# Altium footprint library QFN-124.PcbLib: 1 footprints
Each footprint in its own frame and in the unit in brackets; x right, y up, seen from the top. Pads: shape width x height; smd on the part's side, far side on the other; paste and mask are expansions set on the pad; w line width, h text height; cw(c..) or ccw(c..) is an arc to the next point about the centre after c.
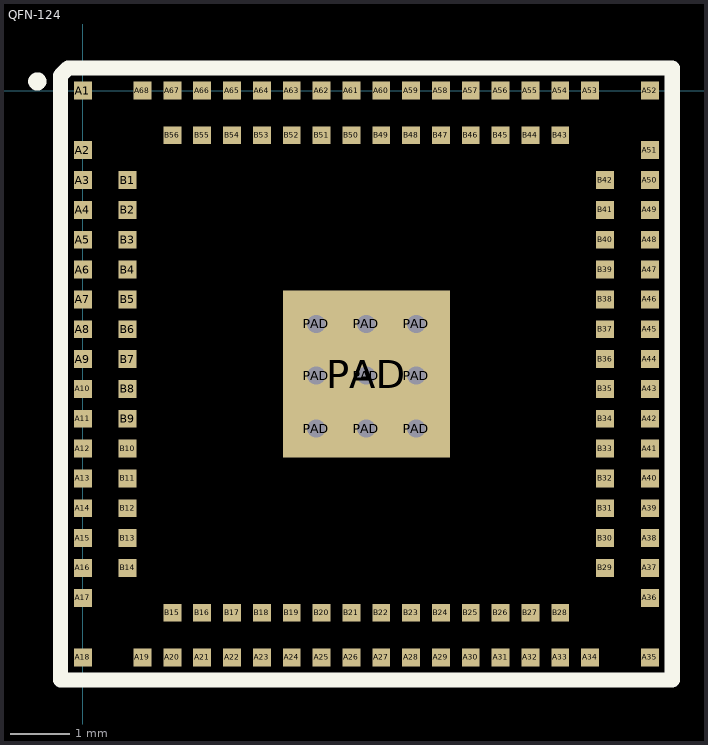
[diagram p0: the footprint, top view; thin cyan lines are the x and y axes]

## QFN-124 [mm]
pads (134):
  rect 0.3x0.3 smd: A1(0,0) A2(0,-1) A3(0,-1.5) A4(0,-2) A5(0,-2.5) A6(0,-3) A7(0,-3.5) A8(0,-4) A9(0,-4.5) A10(0,-5) A11(0,-5.5) A12(0,-6) A13(0,-6.5) A14(0,-7) A15(0,-7.5) A16(0,-8) A17(0,-8.5) A18(0,-9.5) A19(1,-9.5) A20(1.5,-9.5) A21(2,-9.5) A22(2.5,-9.5) A23(3,-9.5) A24(3.5,-9.5) A25(4,-9.5) A26(4.5,-9.5) A27(5,-9.5) A28(5.5,-9.5) A29(6,-9.5) A30(6.5,-9.5) A31(7,-9.5) A32(7.5,-9.5) A33(8,-9.5) A34(8.5,-9.5) A35(9.5,-9.5) A36(9.5,-8.5) A37(9.5,-8) A38(9.5,-7.5) A39(9.5,-7) A40(9.5,-6.5) A41(9.5,-6) A42(9.5,-5.5) A43(9.5,-5) A44(9.5,-4.5) A45(9.5,-4) A46(9.5,-3.5) A47(9.5,-3) A48(9.5,-2.5) A49(9.5,-2) A50(9.5,-1.5) A51(9.5,-1) A52(9.5,0) A53(8.5,0) A54(8,0) A55(7.5,0) A56(7,0) A57(6.5,0) A58(6,0) A59(5.5,0) A60(5,0) A61(4.5,0) A62(4,0) A63(3.5,0) A64(3,0) A65(2.5,0) A66(2,0) A67(1.5,0) A68(1,0) B1(0.75,-1.5) B2(0.75,-2) B3(0.75,-2.5) B4(0.75,-3) B5(0.75,-3.5) B6(0.75,-4) B7(0.75,-4.5) B8(0.75,-5) B9(0.75,-5.5) B10(0.75,-6) B11(0.75,-6.5) B12(0.75,-7) B13(0.75,-7.5) B14(0.75,-8) B15(1.5,-8.75) B16(2,-8.75) B17(2.5,-8.75) B18(3,-8.75) B19(3.5,-8.75) B20(4,-8.75) B21(4.5,-8.75) B22(5,-8.75) B23(5.5,-8.75) B24(6,-8.75) B25(6.5,-8.75) B26(7,-8.75) B27(7.5,-8.75) B28(8,-8.75) B29(8.75,-8) B30(8.75,-7.5) B31(8.75,-7) B32(8.75,-6.5) B33(8.75,-6) B34(8.75,-5.5) B35(8.75,-5) B36(8.75,-4.5) B37(8.75,-4) B38(8.75,-3.5) B39(8.75,-3) B40(8.75,-2.5) B41(8.75,-2) B42(8.75,-1.5) B43(8,-0.75) B44(7.5,-0.75) B45(7,-0.75) B46(6.5,-0.75) B47(6,-0.75) B48(5.5,-0.75) B49(5,-0.75) B50(4.5,-0.75) B51(4,-0.75) B52(3.5,-0.75) B53(3,-0.75) B54(2.5,-0.75) B55(2,-0.75) B56(1.5,-0.75)
  round 0.508 hole 0.305 mask+0: PAD(3.912,-5.664) PAD(3.912,-4.775) PAD(3.912,-3.912) PAD(4.75,-5.664) PAD(4.75,-4.775) PAD(4.75,-3.912) PAD(5.588,-5.664) PAD(5.588,-4.775) PAD(5.588,-3.912)
  rect 2.8x2.8 smd mask+0.102: PAD(4.75,-4.75)
Top Overlay:
  circle w0.254: c-0.762,0.152 r0.025
  lines w0.254: -0.375,-9.875 -0.375,0 -0.375,0.25 -0.25,0.375 0,0.375 0.475,0.375 9.875,0.375 9.875,-9.875 -0.375,-9.875
3D body: height 2, standoff 0, extent -0.35,-9.876 9.901,0.376